# Altium schematic symbol library XuanSieu.SchLib: 2 symbols
Pins are listed as number, name and electrical type; pins without a type are passive.

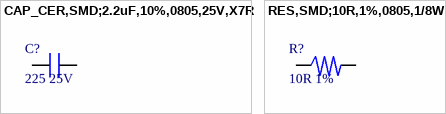
[diagram p0: symbols CAP_CER,SMD;2.2uF,10%,0805,25V,X7R to RES,SMD;10R,1%,0805,1/8W]

## CAP_CER,SMD;2.2uF,10%,0805,25V,X7R
designator C?, comment 225 25V
2.2μF ±10% 25V Ceramic Capacitor X7R 0805 (2012 Metric); Manufacturer: Wurth Electronics; Manufacturer Part Number: 885012207079; LIBRARY MADE BY: MR. XUAN SIEU; Supplier 1: Digikey; RoHS: Yes; Category: Ceramic Capacitors; Stock 1: 7162; Pricing 1: 1=0.21, 10=0.191, 100=0.1719, 500=0.1512 (USD); ComponentLink1URL: http://www.farnell.com/datasheets/1958495.pdf?src-supplier=Farnell; ComponentLink1Description: http://www.farnell.com/datasheets/1958495.pdf?src-supplier=Farnell; ComponentLink2URL: https://katalog.we-online.de/pbs/datasheet/885012207079.pdf?src-supplier=Digikey; ComponentLink2Description: https://katalog.we-online.de/pbs/datasheet/885012207079.pdf?src-supplier=Digikey; ComponentLink3URL: http://www.farnell.com/datasheets/1958495.pdf?src-supplier=Newark; ComponentLink3Description: http://www.farnell.com/datasheets/1958495.pdf?src-supplier=Newark; ComponentLink4URL: http://www.farnell.com/datasheets/1958495.pdf?src-supplier=Element14; ComponentLink4Description: http://www.farnell.com/datasheets/1958495.pdf?src-supplier=Element14; Supplier Part Number 1: 732-7673-1-ND; ComponentLink5Description: Link Original; ComponentLink5URL: https://www.digikey.com/en/products/detail/w%C3%BCrth-elektronik/885012207079/5453528; ComponentLink6Description: Link Cross; ComponentLink6URL: https://www.lcsc.com/product-detail/Multilayer-Ceramic-Capacitors-MLCC-SMD-SMT_Samsung-Electro-Mechanics-CL21A225KBQNNNE_C377773.html?s_z=n_2.2uf%25200805; ComponentLink7Description: Link Viet Nam; ComponentLink7URL: https://linhkien.cxtvn.com/3959-tu-khong-phan-cuc-0805.html
footprint CAP-CER_0805_L2W1.25H0.8_Wave (Ceramic Capacitors, body 2x1.25mm)
footprint CAP-CER_0805_L2W1.25H0.8_Reflow (Ceramic Capacitors, body 2x1.25mm)
pins: 1, 2

## RES,SMD;10R,1%,0805,1/8W
designator R?, comment 10R 1%
Res General Purpose Thick Film 0805 10 Ohm 1% 1/8W ±200ppm/°C Molded SMD Paper T/R; Manufacturer Cross: Yageo; Manufacturer Part Number: RC0805FR-0710RL; Power Rating: 125mW; Voltage Rating: 150V; LIBRARY MADE BY: MR. XUAN SIEU; Supplier 1: Digikey; RoHS: Yes; Category: Chip SMD Resistors; Stock 1: 272346; Pricing 1: 1=0.11, 10=0.035, 100=0.0245, 1000=0.01734, 2500=0.0113, 5000=0.00714, 10000=0.00697, 15000=0.00672 (USD); Case/Package: 0805; Number of Pins: 2; Case Code (Imperial): 0805; Case Code (Metric): 2012; Size Code: 0805; Min Operating Temperature: -55°C; Max Operating Temperature: 155°C; Resistance: 10R; Tolerance: 1%; Packaging: Tape and Reel; Package Quantity: 1; Termination: SMD/SMT; Temperature Coefficient: 200ppm/°C; Series: RC; Technology: THICK FILM; Voltage Rating (AC): 150V; Resistor Type: Thick Film; Number of Terminations: 2; Max Power Dissipation: 125mW; Features: Moisture Resistant; Resistance Tolerance: 1%; Construction: Rectangular; Voltage Rating (DC): 150V; Length: 2mm; Width: 1.25mm; Height: 0.5mm; Depth: 1.25mm; Reach SVHC Compliant: No; Lead Free: Lead Free; RoHS Compliant: Yes; ComponentLink1URL: https://datasheet.ciiva.com/11809/0900766b8106beab-11809370.pdf?src-supplier=Rs; ComponentLink1Description: https://datasheet.ciiva.com/11809/0900766b8106beab-11809370.pdf?src-supplier=Rs; ComponentLink2URL: https://datasheet.ciiva.com/46412/444164-46412859.pdf?src-supplier=Element14; ComponentLink2Description: https://datasheet.ciiva.com/46412/444164-46412859.pdf?src-supplier=Element14; ComponentLink3URL: https://datasheet.ciiva.com/46447/444164-46447565.pdf?src-supplier=Element14; ComponentLink3Description: https://datasheet.ciiva.com/46447/444164-46447565.pdf?src-supplier=Element14; ComponentLink4URL: https://datasheet.ciiva.com/2457/pyu-r-int-thick-7-2457099.pdf?src-supplier=Digikey; ComponentLink4Description: https://datasheet.ciiva.com/2457/pyu-r-int-thick-7-2457099.pdf?src-supplier=Digikey; ComponentLink5URL: https://datasheet.ciiva.com/2457/pyu-r-int-thick-7-2457100.pdf?src-supplier=Digikey; ComponentLink5Description: https://datasheet.ciiva.com/2457/pyu-r-int-thick-7-2457100.pdf?src-supplier=Digikey; ComponentLink6URL: https://datasheet.ciiva.com/2457/pyu-r-int-thick-7-2457098.pdf?src-supplier=Digikey; ComponentLink6Description: https://datasheet.ciiva.com/2457/pyu-r-int-thick-7-2457098.pdf?src-supplier=Digikey; ComponentLink7URL: https://datasheet.ciiva.com/12555/rc0805-257173-12555112.pdf?src-supplier=Mouser; ComponentLink7Description: https://datasheet.ciiva.com/12555/rc0805-257173-12555112.pdf?src-supplier=Mouser; ComponentLink8URL: https://datasheet.ciiva.com/7941/444164-7941688.pdf?src-supplier=Element14; ComponentLink8Description: https://datasheet.ciiva.com/7941/444164-7941688.pdf?src-supplier=Element14; ComponentLink9Description: Link Original; ComponentLink9URL: https://www.digikey.com/en/products/detail/yageo/RC0805FR-0710RL/727534; ComponentLink10Description: Link Cross; ComponentLink10URL: https://www.lcsc.com/product-detail/Chip-Resistor-Surface-Mount_YAGEO-RC0805FR-0710RL_C96347.html?s_z=n_RC0805FR-0710RL; ComponentLink11Description: Link Viet Nam; ComponentLink11URL: https://linhkien.cxtvn.com/11331-dien-tro-0805-1-thong-so-tu-0r-den-910r.html; Supplier Part Number 1: 311-10.0CRCT-ND
footprint RESISTOR_0805_Wave (Fixed Thick Film, body 2.00 x 1.25 mm)
pins: 1, 2